# EAGLE library part 61200821721 (library Wuerth_Elektronik_eiCan_05_Box_Header_IDC_Connectors_1_2)
WR-BHD 2.54mm Male Angled Box Header, 8 Pins
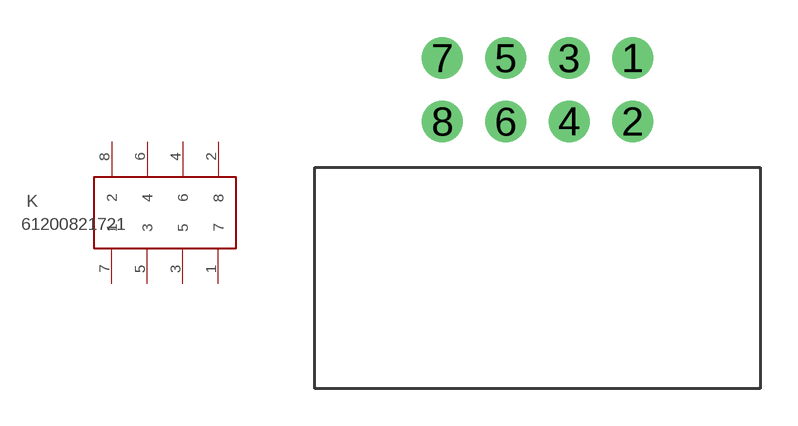
[diagram p90: symbol with the pads of 61200821721; footprint 61200821721]

Designator prefix K

## 61200821721  [61200821721]
1  7  pas
2  8  pas
3  5  pas
4  6  pas
5  3  pas
6  4  pas
7  1  pas
8  2  pas

## Footprint 61200821721 (pad centres in mm)
WR-BHD 2.54mm Male Angled Box Header, 8 Pins
drill 1.1: 1 2.54,1.27; 2 2.54,-1.27; 3 0,1.27; 4 0,-1.27; 5 -2.54,1.27; 6 -2.54,-1.27; 7 -5.08,1.27; 8 -5.08,-1.27